# EAGLE library part 15-WAY (library pimoroni-headers)
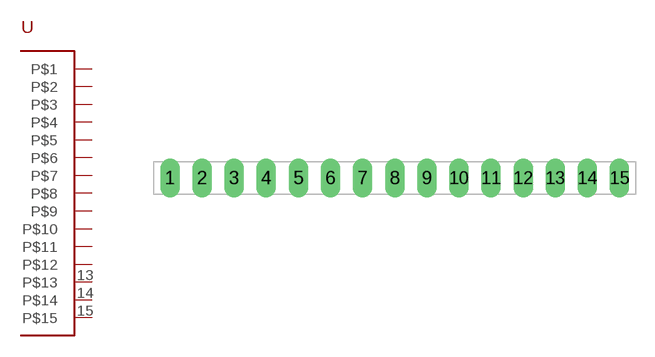
[diagram p11: symbol with the pads of 1X15-PTH-MALE-IRF; footprint 1X15-PTH-MALE-IRF]

Designator prefix -

## 15-WAY  [1X15-PTH-MALE-IRF]
1  P$1
2  P$2
3  P$3
4  P$4
5  P$5
6  P$6
7  P$7
8  P$8
9  P$9
10  P$10
11  P$11
12  P$12
13  P$13
14  P$14
15  P$15

## Footprint 1X15-PTH-MALE-IRF (pad centres in mm)
drill 1.016 long: 1 -17.78,0; 2 -15.24,0; 3 -12.7,0; 4 -10.16,0; 5 -7.62,0; 6 -5.08,0; 7 -2.54,0; 8 0,0; 9 2.54,0; 10 5.08,0; 11 7.62,0; 12 10.16,0; 13 12.7,0; 14 15.24,0; 15 17.78,0